# EAGLE library part OPT3001 (library opt3001)
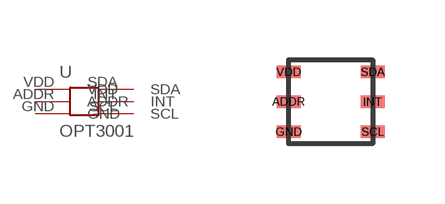
[diagram p0: symbol with the pads of OPT3001; footprint OPT3001]

Designator prefix -

## OPT3001  [OPT3001]
ADDR  ADDR
GND  GND
INT  INT
SCL  SCL
SDA  SDA
VDD  VDD

## OPT3001OPT3001  [OPT3001]
Pads as for OPT3001

## Footprint OPT3001 (pad centres in mm)
smd 0.61 x 0.305: ADDR -1.05,0; GND -1.05,-0.75; INT 1.05,0; SCL 1.05,-0.75; SDA 1.05,0.75; VDD -1.05,0.75